# Altium footprint library Wurth_Elektronik_Passive_rev16a.PCBLIB: 810 footprints (part 40 of 51)
Each footprint in its own frame and in the unit in brackets; x right, y up, seen from the top. Pads: shape width x height; smd on the part's side, far side on the other; paste and mask are expansions set on the pad; w line width, h text height; cw(c..) or ccw(c..) is an arc to the next point about the centre after c.
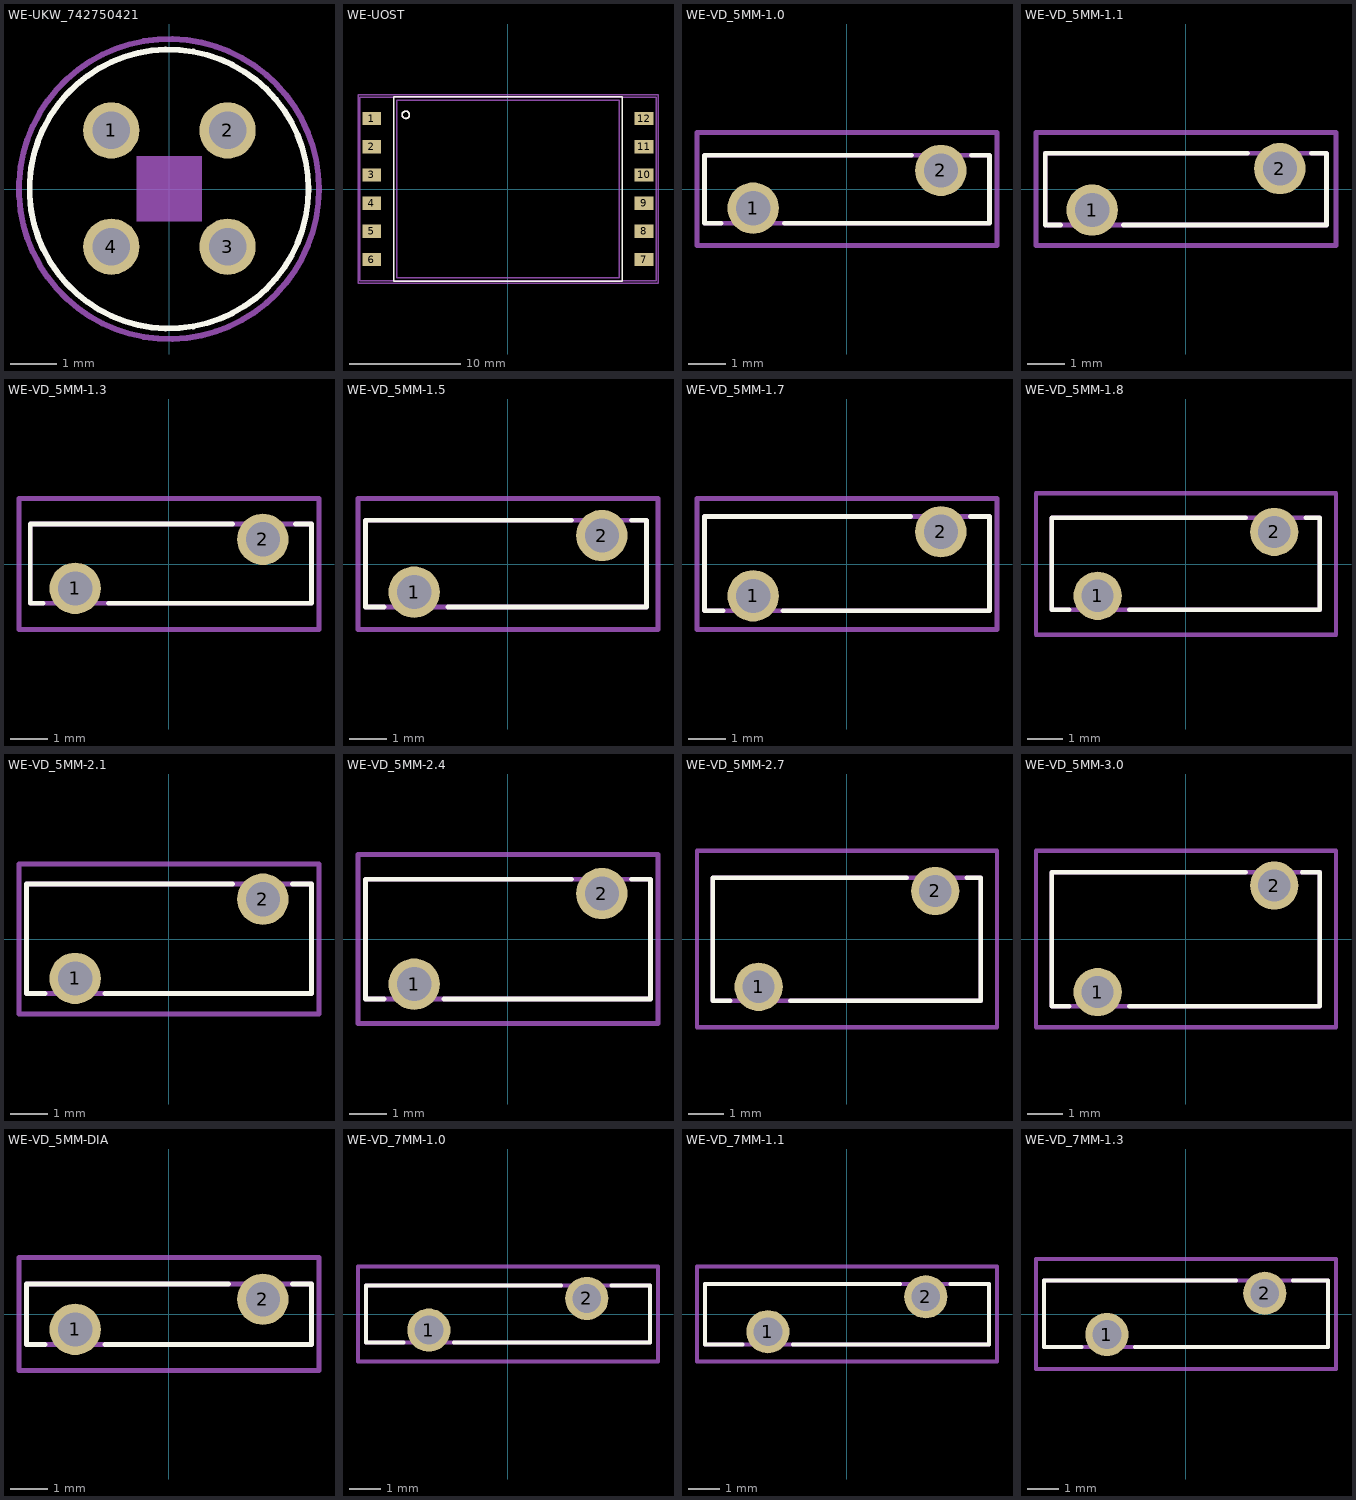
[diagram p39: the footprints below, top view; thin cyan lines are the x and y axes]

## WE-UKW_742750421 [mil]
pads (4):
  round 48 hole 32: 1(-49.21,50) 2(50,50) 3(50,-49.21) 4(-49.21,-49.21)
Top Overlay:
  circle w5: c0,0 r119
Mechanical 2:
  text ">NAME" at -150,150 h77.5
Mechanical 4:
  text ">VALUE" at -150,-200 h77.5
Mechanical 10:
  rectangle: -27.56,-27.56 28,28
Mechanical 27:
  circle w5: c0,0 r128

## WE-UOST [mil]
pads (12):
  rect 67x47 smd: 1(-482.87,250) 2(-482.87,150) 3(-482.87,50) 4(-482.87,-50) 5(-482.87,-150) 6(-482.87,-250) 7(483,-250) 8(483,-150) 9(483,-50) 10(483,50) 11(483,150) 12(483,250)
Top Overlay:
  circle w5: c-362.5,263 r13
  lines w5: -405.51,-326.77 406,-326.77 406,327 -405.51,327 -405.51,-326.77
Mechanical 10:
  lines w5: -393.7,-314.96 394,-314.96 394,315 -393.7,315 -393.7,-314.96
Mechanical 16:
  circle w5: c-362.5,263 r13
  lines w5: -525,-325 525,-325 525,325 -525,325 -525,-325
Mechanical 27:
  lines w5: -531.5,-334.65 532,-334.65 532,335 -531.5,335 -531.5,-334.65

## WE-VD_5MM-1.0 [mil]
pads (2):
  round 54 hole 36: 1(-98.43,-19.68) 2(99,20)
Top Overlay:
  lines w5: -131.89,-35.43 -149.61,-35.43 -149.61,36 68,36 ; -65.75,-35.43 150,-35.43 150,36 131,36
Mechanical 2:
  text ">NAME" at -28.74,93 h77.5
Mechanical 4:
  text ">VALUE" at -18.9,-96.06 h77.5
Mechanical 16:
  lines w5: -149.61,-35.43 150,-35.43 150,36 -149.61,36 -149.61,-35.43
Mechanical 27:
  lines w5: -157.48,-59.06 158,-59.06 158,60 -157.48,60 -157.48,-59.06

## WE-VD_5MM-1.1 [mil]
pads (2):
  round 54 hole 36: 1(-98.43,-21.65) 2(99,22)
Top Overlay:
  lines w5: -147.64,-37.4 -147.64,-11.81 ; -147.64,-10.24 -147.64,38 65,38 ; -145.67,-37.4 -131.5,-37.4 ; -65.35,-37.4 148,-37.4 148,38 132,38
Mechanical 2:
  text ">NAME" at -0.79,99 h77.5
Mechanical 4:
  text ">VALUE" at 0,-101.97 h77.5
Mechanical 16:
  lines w5: -147.64,-37.4 -147.64,38 148,38 148,-37.4 -147.64,-37.4
Mechanical 27:
  lines w5: -157.48,-59.06 158,-59.06 158,60 -157.48,60 -157.48,-59.06

## WE-VD_5MM-1.3 [mil]
pads (2):
  round 54 hole 36: 1(-98.43,-25.59) 2(99,26)
Top Overlay:
  lines w5: -131.89,-41.34 -145.67,-41.34 -145.67,42 67,42 ; -63.39,-41.34 149,-41.34 ; 133,42 150,42 150,-40.94
Mechanical 2:
  text ">NAME" at 0,104 h77.5
Mechanical 4:
  text ">VALUE" at -2.76,-100 h77.5
Mechanical 16:
  lines w5: 149,-41.34 -145.67,-41.34 -145.67,42 150,42 150,-41.34
Mechanical 27:
  lines w5: -157.48,-68.9 158,-68.9 158,69 -157.48,69 -157.48,-68.9

## WE-VD_5MM-1.5 [mil]
pads (2):
  round 54 hole 36: 1(-98.43,-29.53) 2(99,30)
Top Overlay:
  lines w5: -129.92,-45.28 -149.61,-45.28 -149.61,46 67,46 ; -62.99,-45.28 146,-45.28 146,46 130,46
Mechanical 2:
  text ">NAME" at 0,100 h77.5
Mechanical 4:
  text ">VALUE" at 0,-98.43 h77.5
Mechanical 16:
  lines w5: -149.61,46 -149.61,-45.28 146,-45.28 146,46 -147.64,46
Mechanical 27:
  lines w5: -157.48,-68.9 158,-68.9 158,69 -157.48,69 -157.48,-68.9

## WE-VD_5MM-1.7 [mil]
pads (2):
  round 54 hole 36: 1(-98.43,-33.46) 2(99,34)
Top Overlay:
  lines w5: -129.92,-49.21 -149.61,-49.21 -149.61,50 67,50 ; -66.93,-49.21 150,-49.21 150,50 130,50
Mechanical 2:
  text ">NAME" at 0,100 h77.5
Mechanical 4:
  text ">VALUE" at 0,-102.36 h77.5
Mechanical 16:
  lines w5: -149.61,-49.21 -149.61,50 150,50 150,-49.21 -149.61,-49.21
Mechanical 27:
  lines w5: -157.48,-68.9 158,-68.9 158,69 -157.48,69 -157.48,-68.9

## WE-VD_5MM-1.8 [mil]
pads (2):
  round 54 hole 36: 1(-98.43,-35.43) 2(99,36)
Top Overlay:
  lines w5: -129.92,-51.18 -149.61,-51.18 -149.61,52 67,52 ; -62.99,-51.18 150,-51.18 150,52 134,52
Mechanical 2:
  text ">NAME" at 0,110 h77.5
Mechanical 4:
  text ">VALUE" at 0,-114.17 h77.5
Mechanical 16:
  lines w5: -149.61,-51.18 -149.61,52 150,52 150,-51.18 -149.61,-51.18
Mechanical 27:
  lines w5: -167.32,-78.74 168,-78.74 168,79 -167.32,79 -167.32,-78.74

## WE-VD_5MM-2.1 [mil]
pads (2):
  round 54 hole 36: 1(-98.43,-41.34) 2(99,42)
Top Overlay:
  lines w5: -129.92,-57.09 -149.61,-57.09 -149.61,58 67,58 ; -66.93,-57.09 150,-57.09 150,58 130,58
Mechanical 2:
  text ">NAME" at 0,118 h77.5
Mechanical 4:
  text ">VALUE" at 0,-120.08 h77.5
Mechanical 16:
  lines w5: -149.61,-57.09 150,-57.09 150,58 -149.61,58 -149.61,-57.09
Mechanical 27:
  lines w5: -157.48,-78.74 158,-78.74 158,79 -157.48,79 -157.48,-78.74

## WE-VD_5MM-2.4 [mil]
pads (2):
  round 54 hole 36: 1(-98.43,-47.24) 2(99,48)
Top Overlay:
  lines w5: -129.92,-62.99 -149.61,-62.99 -149.61,63 67,63 ; -66.93,-62.99 150,-62.99 150,63 130,63
Mechanical 2:
  text ">NAME" at 0,120 h77.5
Mechanical 4:
  text ">VALUE" at 0,-125.98 h77.5
Mechanical 16:
  lines w5: -149.61,-62.99 -149.61,63 150,63 150,-62.99 -149.61,-62.99
Mechanical 27:
  lines w5: -157.48,-88.58 158,-88.58 158,89 -157.48,89 -157.48,-88.58

## WE-VD_5MM-2.7 [mil]
pads (2):
  round 54 hole 36: 1(-98.43,-53.15) 2(99,54)
Top Overlay:
  lines w5: -129.92,-68.9 -149.61,-68.9 -149.61,69 67,69 ; -62.99,-68.9 150,-68.9 150,69 134,69
Mechanical 2:
  text ">NAME" at 0,140 h77.5
Mechanical 4:
  text ">VALUE" at 0,-131.89 h77.5
Mechanical 16:
  lines w5: -149.61,-68.9 150,-68.9 150,69 -149.61,69 -149.61,-68.9
Mechanical 27:
  lines w5: -167.32,-98.43 168,-98.43 168,99 -167.32,99 -167.32,-98.43

## WE-VD_5MM-3.0 [mil]
pads (2):
  round 54 hole 36: 1(-98.43,-59.06) 2(99,60)
Top Overlay:
  lines w5: -129.92,-74.8 -149.61,-74.8 -149.61,75 67,75 ; -62.99,-74.8 150,-74.8 150,75 130,75
Mechanical 2:
  text ">NAME" at 0,130 h77.5
Mechanical 4:
  text ">VALUE" at 0,-137.8 h77.5
Mechanical 16:
  lines w5: -149.61,-74.8 150,-74.8 150,75 -149.61,75 -149.61,-74.8
Mechanical 27:
  lines w5: -167.32,-98.43 168,-98.43 168,99 -167.32,99 -167.32,-98.43

## WE-VD_5MM-DIA [mil]
pads (2):
  round 54 hole 36: 1(-98.43,-15.75) 2(99,16)
Top Overlay:
  lines w5: -149.61,-31.5 -149.61,32 ; -147.64,-31.5 -129.92,-31.5 ; -147.64,32 63,32 ; -66.93,-31.5 148,-31.5 ; 130,32 148,32 ; 150,-31.5 150,32
Mechanical 2:
  text ">NAME" at 0,91 h77.5
Mechanical 4:
  text ">VALUE" at 0,-94.49 h77.5
Mechanical 16:
  lines w5: -149.61,-31.5 -149.61,32 150,32 150,-31.5 -149.61,-31.5
Mechanical 27:
  lines w5: -157.48,-59.06 158,-59.06 158,60 -157.48,60 -157.48,-59.06

## WE-VD_7MM-1.0 [mil]
pads (2):
  round 54 hole 36: 1(-98.43,-19.68) 2(99,20)
Top Overlay:
  lines w5: -129.92,-35.43 -177.17,-35.43 -177.17,36 67,36 ; -66.93,-35.43 178,-35.43 178,36 130,36
Mechanical 2:
  text ">NAME" at 0,91 h77.5
Mechanical 4:
  text ">VALUE" at 0,-88.58 h77.5
Mechanical 16:
  lines w5: -177.17,-35.43 -177.17,36 178,36 178,-35.43 -177.17,-35.43
Mechanical 27:
  lines w5: -187.01,-59.06 188,-59.06 188,60 -187.01,60 -187.01,-59.06

## WE-VD_7MM-1.1 [mil]
pads (2):
  round 54 hole 36: 1(-98.43,-21.65) 2(99,22)
Top Overlay:
  lines w5: -129.92,-37.4 -177.17,-37.4 -177.17,38 67,38 ; -66.93,-37.4 178,-37.4 178,38 130,38
Mechanical 2:
  text ">NAME" at 0,99 h77.5
Mechanical 4:
  text ">VALUE" at 0,-90.55 h77.5
Mechanical 16:
  lines w5: -177.17,-37.4 -177.17,38 178,38 178,-37.4 -177.17,-37.4
Mechanical 27:
  lines w5: -187.01,-59.06 188,-59.06 188,60 -187.01,60 -187.01,-59.06

## WE-VD_7MM-1.3 [mil]
pads (2):
  round 54 hole 36: 1(-98.43,-25.59) 2(99,26)
Top Overlay:
  lines w5: -129.92,-41.34 -177.17,-41.34 -177.17,42 63,42 ; -62.99,-41.34 178,-41.34 178,42 134,42
Mechanical 2:
  text ">NAME" at 0,104 h77.5
Mechanical 4:
  text ">VALUE" at 0,-104.33 h77.5
Mechanical 16:
  lines w5: -177.17,-41.34 -177.17,42 178,42 178,-41.34 -177.17,-41.34
Mechanical 27:
  lines w5: -187.01,-68.9 188,-68.9 188,69 -187.01,69 -187.01,-68.9